# EAGLE library part ARDUINO-PRO-MINI (library user_ic)
アルデュイーノプロミニ 上側の横向きの入るヘッダ用の穴は省略 多分基板に差し込むための穴ではなくてほかのシールドと連結するための穴であるから、フットプリント上に穴は必要ないと判断した。 なんか内側にあるi2cの信号の部分が糞of糞、組み込み設計者に喧嘩売ってるレベル
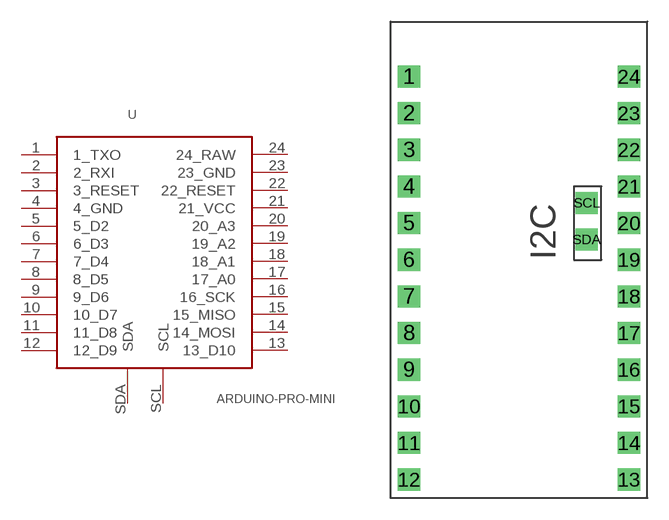
[diagram p24: symbol with the pads of ARDUINO_PRO_MINI; footprint ARDUINO_PRO_MINI]

Designator prefix -

## ARDUINO-PRO-MINI  [ARDUINO_PRO_MINI]
1  1_TXO
2  2_RXI
3  3_RESET
4  4_GND
5  5_D2
6  6_D3
7  7_D4
8  8_D5
9  9_D6
10  10_D7
11  11_D8
12  12_D9
13  13_D10
14  14_MOSI
15  15_MISO
16  16_SCK
17  17_A0
18  18_A1
19  19_A2
20  20_A3
21  21_VCC
22  22_RESET
23  23_GND
24  24_RAW
SCL  SCL
SDA  SDA

## Footprint ARDUINO_PRO_MINI (pad centres in mm)
drill 1.02 square: 1 -7.62,13.97; 2 -7.62,11.43; 3 -7.62,8.89; 4 -7.62,6.35; 5 -7.62,3.81; 6 -7.62,1.27; 7 -7.62,-1.27; 8 -7.62,-3.81; 9 -7.62,-6.35; 10 -7.62,-8.89; 11 -7.62,-11.43; 12 -7.62,-13.97; 13 7.62,-13.97; 14 7.62,-11.43; 15 7.62,-8.89; 16 7.62,-6.35; 17 7.62,-3.81; 18 7.62,-1.27; 19 7.62,1.27; 20 7.62,3.81; 21 7.62,6.35; 22 7.62,8.89; 23 7.62,11.43; 24 7.62,13.97; SCL 4.699,5.207; SDA 4.699,2.667